# EAGLE library part USB_A_PLUG (library USB_DEBUG)
USB A Plug
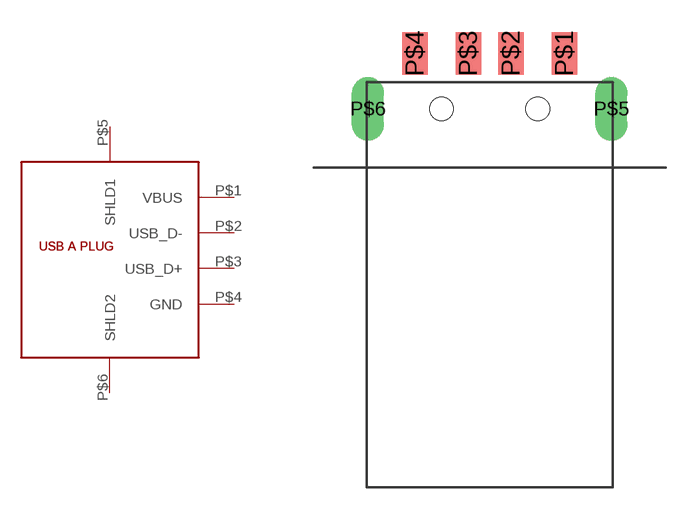
[diagram p0: symbol with the pads of MOLEX_48037-1000; footprint MOLEX_48037-1000]

Designator prefix J

## USB_A_PLUG  [MOLEX_48037-1000]
P$1  VBUS  pwr
P$2  USB_D-
P$3  USB_D+
P$4  GND  pwr
P$5  SHLD1  pwr
P$6  SHLD2  pwr

## Footprint MOLEX_48037-1000 (pad centres in mm)
USB A type PLUG, SMT, Bent Shell Leg
smd 1.2 x 2: P$1 3.5,2.6; P$2 1,2.6; P$3 -1,2.6; P$4 -3.5,2.6
drill 1 long: P$5 5.7,0; P$6 -5.7,0
hole 1.1 at 2.25,0
hole 1.1 at -2.25,0